# Altium footprint library pads.PcbLib: 8 footprints
Each footprint in its own frame and in the unit in brackets; x right, y up, seen from the top. Pads: shape width x height; smd on the part's side, far side on the other; paste and mask are expansions set on the pad; w line width, h text height; cw(c..) or ccw(c..) is an arc to the next point about the centre after c.
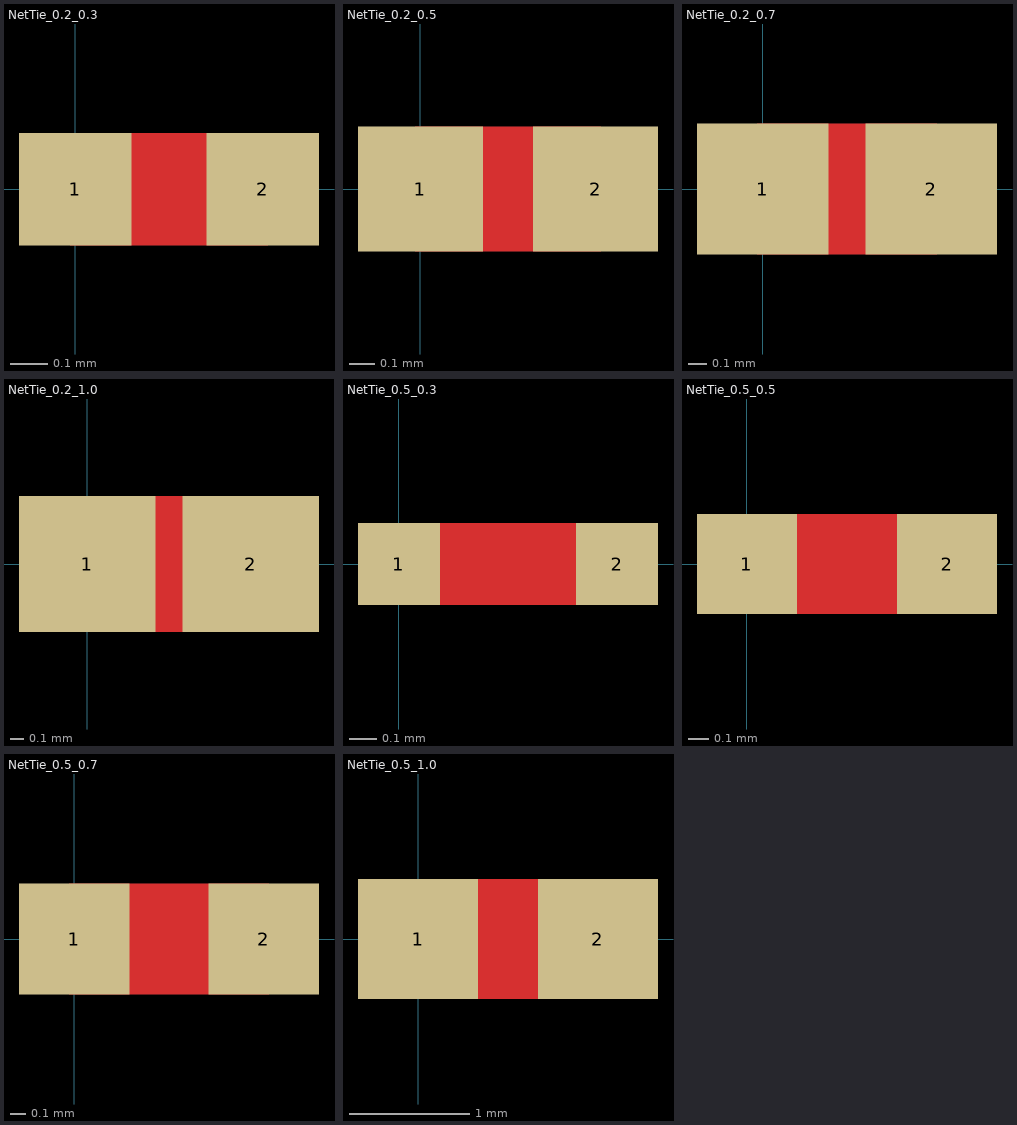
[diagram p0: the footprints below, top view; thin cyan lines are the x and y axes]

## NetTie_0.2_0.3 [mm] "SMD Net Tie"
pads (2):
  rect 0.3x0.3 smd paste-2539.97 mask-0.064: 1(0,0) 2(0.5,0)
Top Layer:
  lines w0.3: 0,0 0.5,0

## NetTie_0.2_0.5 [mm] "SMD Net Tie"
pads (2):
  rect 0.5x0.5 smd paste-2539.97 mask-0.064: 1(0,0) 2(0.7,0)
Top Layer:
  lines w0.5: 0,0 0.7,0

## NetTie_0.2_0.7 [mm] "SMD Net Tie"
pads (2):
  rect 0.7x0.7 smd paste-2539.97 mask-0.064: 1(0,0) 2(0.9,0)
Top Layer:
  lines w0.7: 0,0 0.9,0

## NetTie_0.2_1.0 [mm] "SMD Net Tie"
pads (2):
  rect 1x1 smd paste-2539.97 mask-0.064: 1(0,0) 2(1.2,0)
Top Layer:
  lines w1: 0,0 1.2,0

## NetTie_0.5_0.3 [mm] "SMD Net Tie"
pads (2):
  rect 0.3x0.3 smd paste-2539.97 mask-0.064: 1(0,0) 2(0.8,0)
Top Layer:
  lines w0.3: 0,0 0.8,0

## NetTie_0.5_0.5 [mm] "SMD Net Tie"
pads (2):
  rect 0.5x0.5 smd paste-2539.97 mask-0.064: 1(0,0) 2(1,0)
Top Layer:
  lines w0.5: 0,0 1,0

## NetTie_0.5_0.7 [mm] "SMD Net Tie"
pads (2):
  rect 0.7x0.7 smd paste-2539.97 mask-0.064: 1(0,0) 2(1.2,0)
Top Layer:
  lines w0.7: 0,0 1.2,0

## NetTie_0.5_1.0 [mm] "SMD Net Tie"
pads (2):
  rect 1x1 smd paste-2539.97 mask-0.064: 1(0,0) 2(1.5,0)
Top Layer:
  lines w1: 0,0 1.5,0